# EAGLE library part TCA9517 (library miller)
TCA9517 voltage regulator Texas Instruments TCA9517 low dropout linear voltage regulator
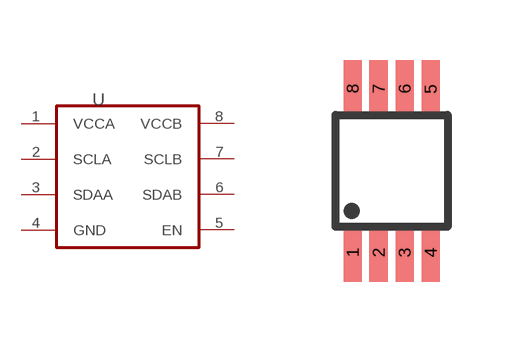
[diagram p37: symbol with the pads of MSOP8; footprint MSOP8]

Designator prefix -

## TCA9517DGK  [MSOP8]
1  VCCA  sup
2  SCLA
3  SDAA
4  GND  pwr
5  EN
6  SDAB
7  SCLB
8  VCCB  sup

## Footprint MSOP8 (pad centres in mm)
Micro Small Outline Package Grid .65mm Based on Texas Instruments DGK (S-PDSO-G8) Plastic Small Outline Package footprint
smd 0.45 x 1.45: 1 -0.975,-2.05; 2 -0.325,-2.05; 3 0.325,-2.05; 4 0.975,-2.05; 5 0.975,2.05; 6 0.325,2.05; 7 -0.325,2.05; 8 -0.975,2.05